# Altium schematic symbol library LIFCL-17-7BG256C.SchLib: 2 symbols
Pins are listed as number, name and electrical type; pins without a type are passive.

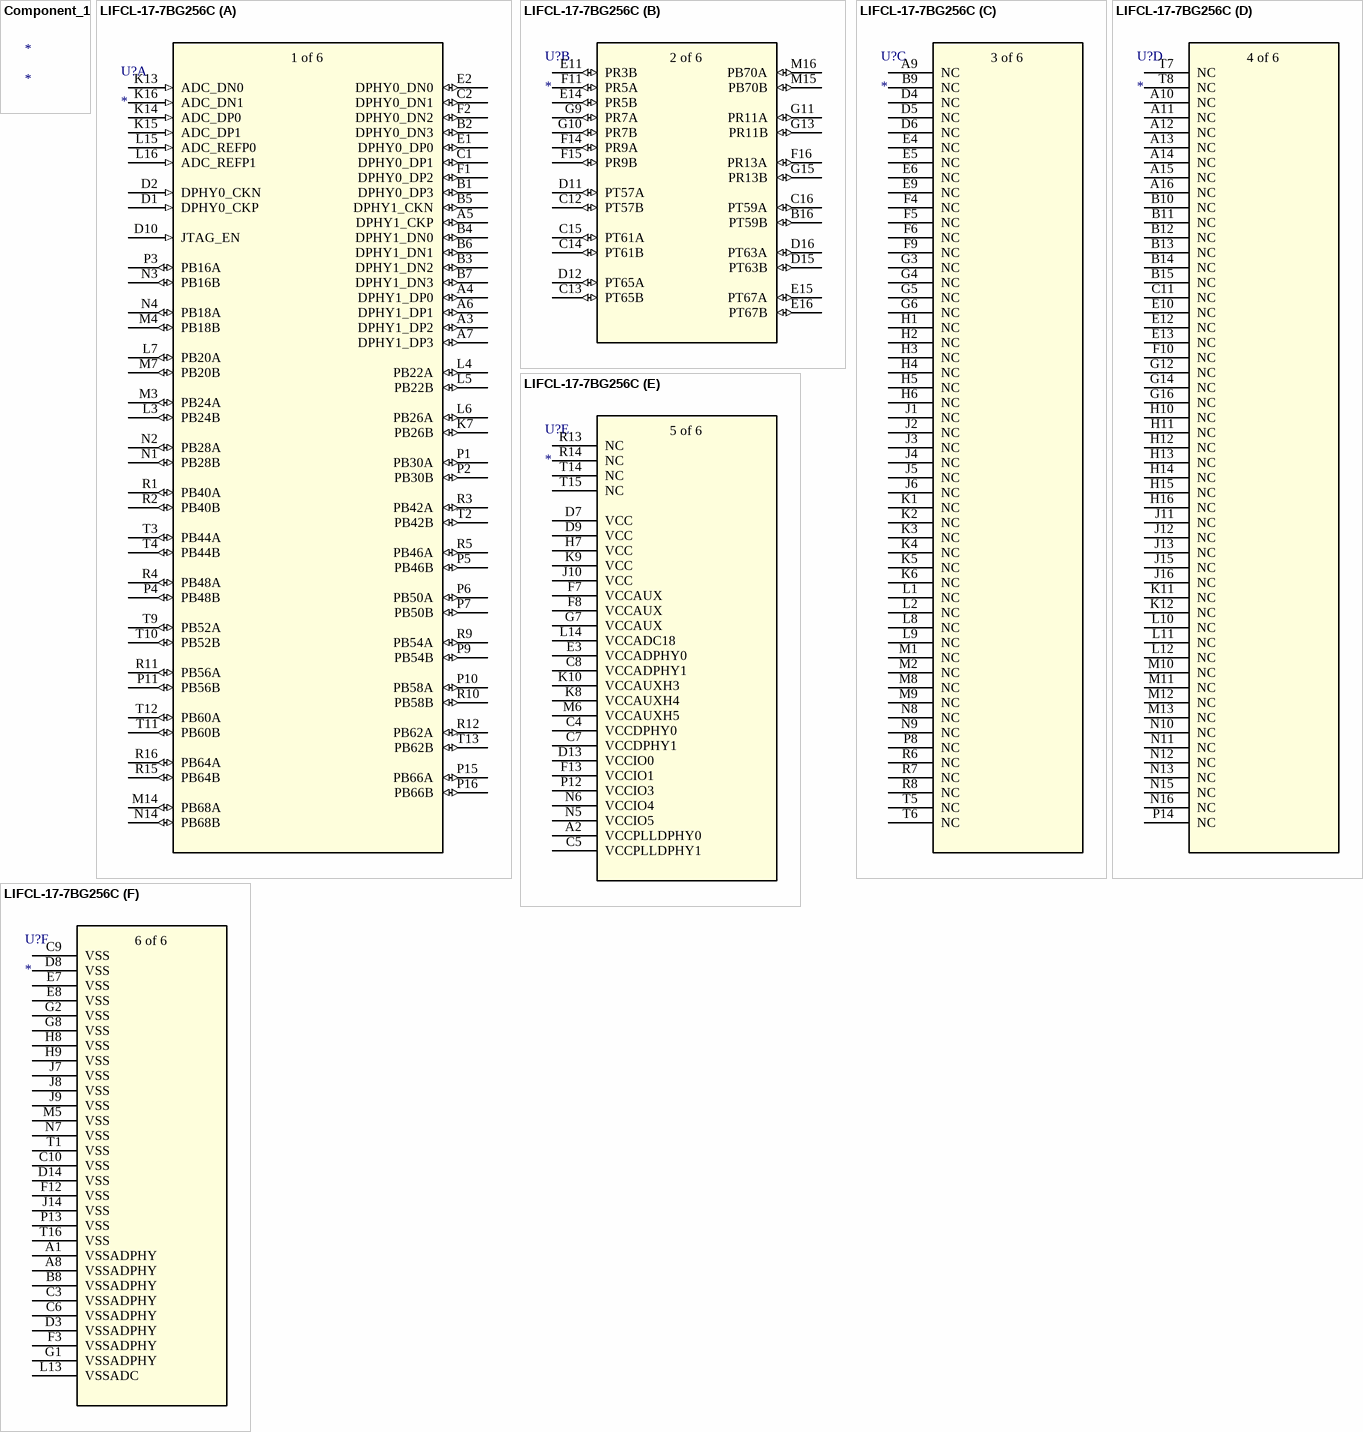
[diagram p0: symbols Component_1 to LIFCL-17-7BG256C]

## Component_1
designator *

## LIFCL-17-7BG256C
designator U?
No Description Available; Mfr_Name: Lattice; RefDes: RefDes; Type: Type
footprint caBGA256_LAT
part A pins: A3 DPHY1_DP2 (io), A4 DPHY1_DP0 (io), A5 DPHY1_CKP (io), A6 DPHY1_DP1 (io), A7 DPHY1_DP3 (io), B1 DPHY0_DP3 (io), B2 DPHY0_DN3 (io), B3 DPHY1_DN2 (io), B4 DPHY1_DN0 (io), B5 DPHY1_CKN (io), B6 DPHY1_DN1 (io), B7 DPHY1_DN3 (io), C1 DPHY0_DP1 (io), C2 DPHY0_DN1 (io), D1 DPHY0_CKP (in), D2 DPHY0_CKN (in), D10 JTAG_EN (in), E1 DPHY0_DP0 (io), E2 DPHY0_DN0 (io), F1 DPHY0_DP2 (io), F2 DPHY0_DN2 (io), K7 PB26B (io), K13 ADC_DN0 (in), K14 ADC_DP0 (in), K15 ADC_DP1 (in), K16 ADC_DN1 (in), L3 PB24B (io), L4 PB22A (io), L5 PB22B (io), L6 PB26A (io), L7 PB20A (io), L15 ADC_REFP0 (in), L16 ADC_REFP1 (in), M3 PB24A (io), M4 PB18B (io), M7 PB20B (io), M14 PB68A (io), N1 PB28B (io), N2 PB28A (io), N3 PB16B (io), N4 PB18A (io), N14 PB68B (io), P1 PB30A (io), P2 PB30B (io), P3 PB16A (io), P4 PB48B (io), P5 PB46B (io), P6 PB50A (io), P7 PB50B (io), P9 PB54B (io), P10 PB58A (io), P11 PB56B (io), P15 PB66A (io), P16 PB66B (io), R1 PB40A (io), R2 PB40B (io), R3 PB42A (io), R4 PB48A (io), R5 PB46A (io), R9 PB54A (io), R10 PB58B (io), R11 PB56A (io), R12 PB62A (io), R15 PB64B (io), R16 PB64A (io), T2 PB42B (io), T3 PB44A (io), T4 PB44B (io), T9 PB52A (io), T10 PB52B (io), T11 PB60B (io), T12 PB60A (io), T13 PB62B (io)
part B pins: B16 PT59B (io), C12 PT57B (io), C13 PT65B (io), C14 PT61B (io), C15 PT61A (io), C16 PT59A (io), D11 PT57A (io), D12 PT65A (io), D15 PT63B (io), D16 PT63A (io), E11 PR3B (io), E14 PR5B (io), E15 PT67A (io), E16 PT67B (io), F11 PR5A (io), F14 PR9A (io), F15 PR9B (io), F16 PR13A (io), G9 PR7A (io), G10 PR7B (io), G11 PR11A (io), G13 PR11B (io), G15 PR13B (io), M15 PB70B (io), M16 PB70A (io)
part C pins: A9 NC, B9 NC, D4 NC, D5 NC, D6 NC, E4 NC, E5 NC, E6 NC, E9 NC, F4 NC, F5 NC, F6 NC, F9 NC, G3 NC, G4 NC, G5 NC, G6 NC, H1 NC, H2 NC, H3 NC, H4 NC, H5 NC, H6 NC, J1 NC, J2 NC, J3 NC, J4 NC, J5 NC, J6 NC, K1 NC, K2 NC, K3 NC, K4 NC, K5 NC, K6 NC, L1 NC, L2 NC, L8 NC, L9 NC, M1 NC, M2 NC, M8 NC, M9 NC, N8 NC, N9 NC, P8 NC, R6 NC, R7 NC, R8 NC, T5 NC, T6 NC
part D pins: A10 NC, A11 NC, A12 NC, A13 NC, A14 NC, A15 NC, A16 NC, B10 NC, B11 NC, B12 NC, B13 NC, B14 NC, B15 NC, C11 NC, E10 NC, E12 NC, E13 NC, F10 NC, G12 NC, G14 NC, G16 NC, H10 NC, H11 NC, H12 NC, H13 NC, H14 NC, H15 NC, H16 NC, J11 NC, J12 NC, J13 NC, J15 NC, J16 NC, K11 NC, K12 NC, L10 NC, L11 NC, L12 NC, M10 NC, M11 NC, M12 NC, M13 NC, N10 NC, N11 NC, N12 NC, N13 NC, N15 NC, N16 NC, P14 NC, T7 NC, T8 NC
part E pins: A2 VCCPLLDPHY0 (power), C4 VCCDPHY0 (power), C5 VCCPLLDPHY1 (power), C7 VCCDPHY1 (power), C8 VCCADPHY1 (power), D7 VCC (power), D9 VCC (power), D13 VCCIO0 (power), E3 VCCADPHY0 (power), F7 VCCAUX (power), F8 VCCAUX (power), F13 VCCIO1 (power), G7 VCCAUX (power), H7 VCC (power), J10 VCC (power), K8 VCCAUXH4 (power), K9 VCC (power), K10 VCCAUXH3 (power), L14 VCCADC18 (power), M6 VCCAUXH5 (power), N5 VCCIO5 (power), N6 VCCIO4 (power), P12 VCCIO3 (power), R13 NC, R14 NC, T14 NC, T15 NC
part F pins: A1 VSSADPHY (power), A8 VSSADPHY (power), B8 VSSADPHY (power), C3 VSSADPHY (power), C6 VSSADPHY (power), C9 VSS (power), C10 VSS (power), D3 VSSADPHY (power), D8 VSS (power), D14 VSS (power), E7 VSS (power), E8 VSS (power), F3 VSSADPHY (power), F12 VSS (power), G1 VSSADPHY (power), G2 VSS (power), G8 VSS (power), H8 VSS (power), H9 VSS (power), J7 VSS (power), J8 VSS (power), J9 VSS (power), J14 VSS (power), L13 VSSADC (power), M5 VSS (power), N7 VSS (power), P13 VSS (power), T1 VSS (power), T16 VSS (power)
part A text: 1 of 6
part B text: 2 of 6
part C text: 3 of 6
part D text: 4 of 6
part E text: 5 of 6
part F text: 6 of 6